# Altium integrated library Interface - RS485.IntLib: 24 symbols
Pins are listed as number, name and electrical type; pins without a type are passive.

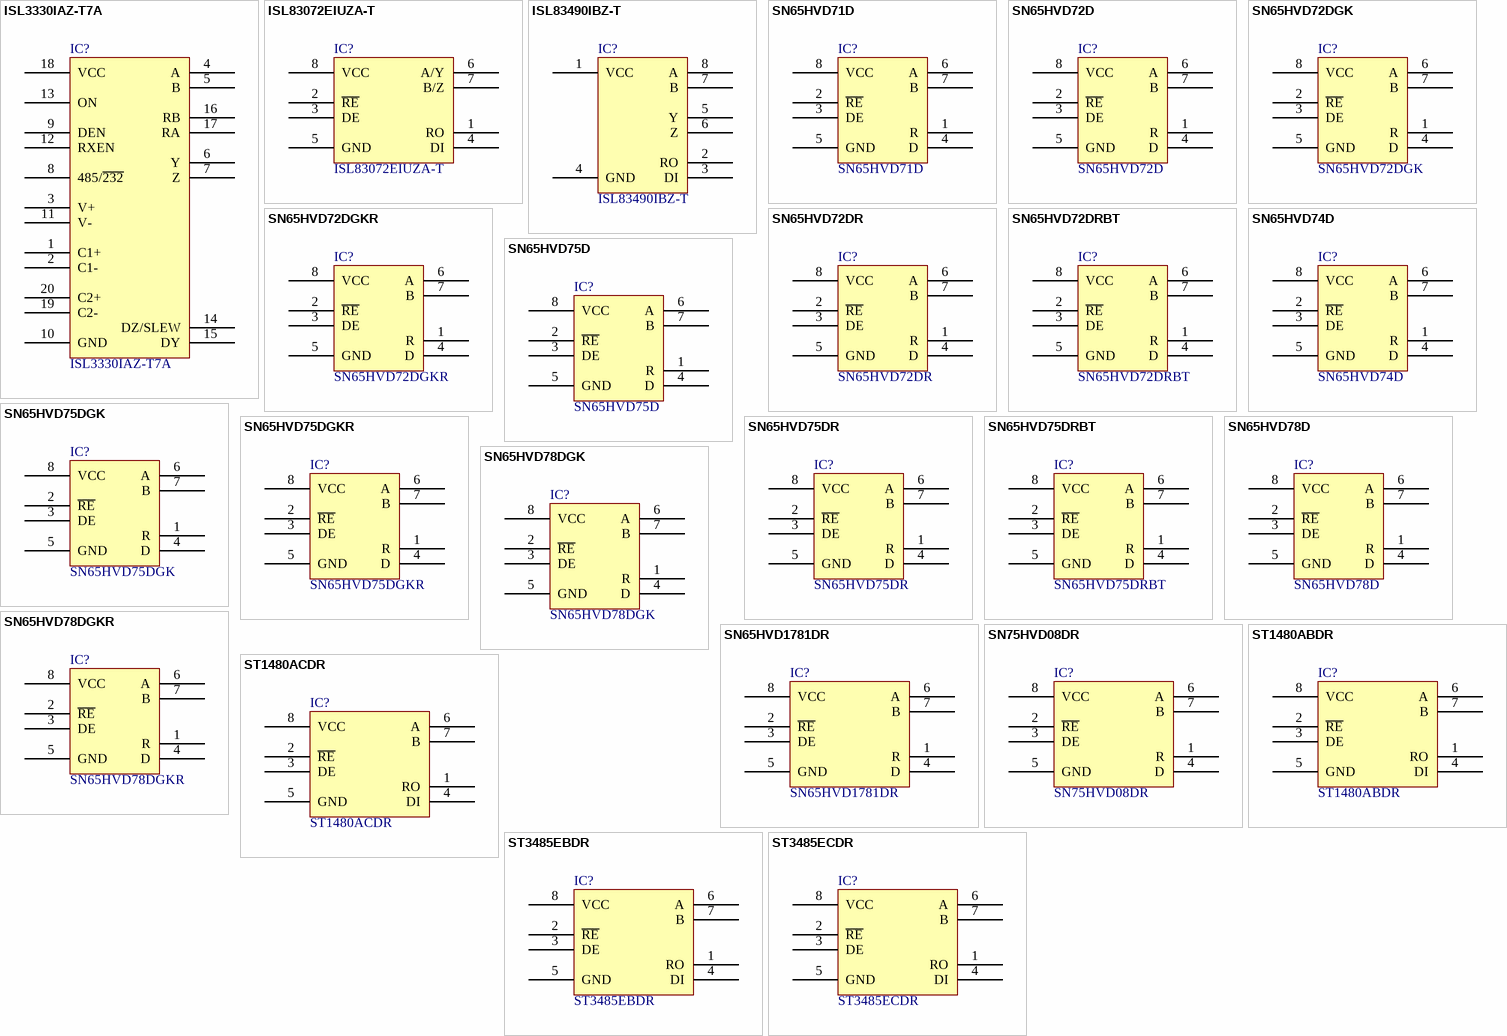
[diagram p0: symbols ISL3330IAZ-T7A to ST3485ECDR]

## ISL3330IAZ-T7A
designator IC?
IC TXRX RS232/485 DUAL 20SSOP; Manufacturer: Intersil; Protocol: RS232, RS422, RS485; Number of Drivers/Receivers: 2/2; Duplex: Full; Receiver Hysteresis: 35mV; Data Rate: 20Mbps; Voltage - Supply: 3.15 V ~ 3.45 V; Part Number: ISL3330IAZ-T7A; PartId: 16400; Supplier 1: Digi-Key; Supplier Part Number 1: ISL3330IAZ-T7ATR-ND; ComponentLink1Description: Datasheet; ComponentLink1URL: http://www.intersil.com/content/dam/Intersil/documents/isl3/isl3330-31.pdf; ComponentLink2Description: Digi-Key Listing; ComponentLink2URL: http://www.digikey.com/product-detail/en/intersil/ISL3330IAZ-T7A/ISL3330IAZ-T7ATR-ND/2513557; Price: 4.93; Type: Transceiver; Device Package: 20-SSOP (0.209", 5.30mm Width); Operating Temperature: -40C ~ 85C
footprint INTERSIL SSOP-20
pins: 1 C1+, 2 C1-, 3 V+, 4 A, 5 B, 6 Y, 7 Z, 8 485/~{232}, 9 DEN, 10 GND, 11 V-, 12 RXEN, 13 ON, 14 DZ/SLEW, 15 DY, 16 RB, 17 RA, 18 VCC, 19 C2-, 20 C2+

## ISL83072EIUZA-T
designator IC?
IC TXRX RS422/485 250KBPS 8MSOP; Manufacturer: Intersil; Protocol: RS422, RS485; Number of Drivers/Receivers: 1/1; Duplex: Half; Receiver Hysteresis: 15mV; Voltage - Supply: 3 V ~ 3.6 V; Part Number: ISL83072EIUZA-T; PartId: 16407; Supplier 1: Digi-Key; Supplier Part Number 1: ISL83072EIUZA-TTR-ND; ComponentLink1Description: Datasheet; ComponentLink1URL: http://www.intersil.com/content/dam/Intersil/documents/isl8/isl83070e-71e-72e-73e-75e-78e.pdf; ComponentLink2Description: Digi-Key Listing; ComponentLink2URL: http://www.digikey.com/product-detail/en/intersil/ISL83072EIUZA-T/ISL83072EIUZA-TTR-ND/1034465; Price: 0.7965; Type: Transceiver; Device Package: 8-TSSOP, 8-MSOP (0.118", 3.00mm Width); Operating Temperature: -40C ~ 85C; Data Rate: 250kbps
footprint INTERSIL SOIC-8 M8.15
pins: 1 RO, 2 ~{RE}, 3 DE, 4 DI, 5 GND, 6 A/Y, 7 B/Z, 8 VCC

## ISL83490IBZ-T
designator IC?
IC TXRX RS485/422 3.3V LP 8-S; Manufacturer: Intersil; Protocol: RS422, RS485; Number of Drivers/Receivers: 1/1; Duplex: Full; Receiver Hysteresis: 50mV; Data Rate: 10Mbps; Voltage - Supply: 3 V ~ 3.6 V; Part Number: ISL83490IBZ-T; PartId: 9754; Supplier 1: Digi-Key; Supplier Part Number 1: ISL83490IBZ-TTR-ND; ComponentLink1Description: Datasheet; ComponentLink1URL: http://www.intersil.com/content/dam/Intersil/documents/isl8/isl83483-85-88-90-91.pdf; ComponentLink2Description: Digi-Key Listing; ComponentLink2URL: http://www.digikey.com/product-detail/en/intersil/ISL83490IBZ-T/ISL83490IBZ-TTR-ND/1065061; Price: 0.574; Type: Transceiver; Device Package: 8-SOIC (0.154", 3.90mm Width); Operating Temperature: -40C ~ 85C
footprint INTERSIL SOIC-8 M8.15
pins: 1 VCC, 2 RO, 3 DI, 4 GND, 5 Y, 6 Z, 7 B, 8 A

## SN65HVD71D
designator IC?
IC RS485 TXRX 3.3 ESD 8SOIC; Manufacturer: Texas Instruments; Protocol: RS422, RS485; Number of Drivers/Receivers: 1/1; Duplex: Full; Receiver Hysteresis: 70mV; Data Rate: 400kbps; Voltage - Supply: 3 V ~ 3.6 V; Part Number: SN65HVD71D; PartId: 9744; Supplier 1: Digi-Key; Supplier Part Number 1: 296-38501-5-ND; ComponentLink1Description: Datasheet; ComponentLink1URL: http://www.ti.com/lit/ds/symlink/sn65hvd71.pdf; ComponentLink2Description: Digi-Key Listing; ComponentLink2URL: http://www.digikey.com/product-detail/en/texas-instruments/SN65HVD71D/296-38501-5-ND/5023869; Price: 4.2; Type: Transceiver; Device Package: 8-SOIC (0.154", 3.90mm Width); Operating Temperature: -40C ~ 125C
footprint TI SOIC-8 D
pins: 1 R, 2 ~{RE}, 3 DE, 4 D, 5 GND, 6 A, 7 B, 8 VCC

## SN65HVD72D
designator IC?
IC TXRX RS485 3.3V 8SOIC; Manufacturer: Texas Instruments; Protocol: RS422, RS485; Number of Drivers/Receivers: 1/1; Duplex: Half; Receiver Hysteresis: 80mV; Data Rate: 250kbps; Voltage - Supply: 3 V ~ 3.6 V; Part Number: SN65HVD72D; PartId: 9741; Supplier 1: Digi-Key; Supplier Part Number 1: 296-30400-5-ND; ComponentLink1Description: Datasheet; ComponentLink1URL: http://www.ti.com/lit/ds/symlink/sn65hvd72.pdf; ComponentLink2Description: Digi-Key Listing; ComponentLink2URL: http://www.digikey.com/product-detail/en/texas-instruments/SN65HVD72D/296-30400-5-ND/3283549; Price: 2.04; Type: Transceiver; Device Package: 8-SOIC (0.154", 3.90mm Width); Operating Temperature: -40C ~ 125C
footprint TI SOIC-8 D
pins: 1 R, 2 ~{RE}, 3 DE, 4 D, 5 GND, 6 A, 7 B, 8 VCC

## SN65HVD72DGK
designator IC?
IC TXRX RS485 3.3V 8VSSOP; Manufacturer: Texas Instruments; Protocol: RS422, RS485; Number of Drivers/Receivers: 1/1; Duplex: Half; Receiver Hysteresis: 80mV; Data Rate: 250kbps; Voltage - Supply: 3 V ~ 3.6 V; Part Number: SN65HVD72DGK; PartId: 9751; Supplier 1: Digi-Key; Supplier Part Number 1: 296-43493-5-ND; ComponentLink1Description: Datasheet; ComponentLink1URL: http://www.ti.com/lit/ds/symlink/sn65hvd72.pdf; ComponentLink2Description: Digi-Key Listing; ComponentLink2URL: http://www.digikey.com/product-detail/en/texas-instruments/SN65HVD72DGK/296-43493-5-ND/3902446; Price: 2.51; Type: Transceiver; Device Package: 8-TSSOP, 8-MSOP (0.118", 3.00mm Width); Operating Temperature: -40C ~ 125C
footprint TI VSSOP-8 DGK
pins: 1 R, 2 ~{RE}, 3 DE, 4 D, 5 GND, 6 A, 7 B, 8 VCC

## SN65HVD72DGKR
designator IC?
IC TXRX RS485 3.3V 8VSSOP; Manufacturer: Texas Instruments; Protocol: RS422, RS485; Number of Drivers/Receivers: 1/1; Duplex: Half; Receiver Hysteresis: 80mV; Data Rate: 250kbps; Voltage - Supply: 3 V ~ 3.6 V; Part Number: SN65HVD72DGKR; PartId: 9746; Supplier 1: Digi-Key; Supplier Part Number 1: 296-35069-2-ND; ComponentLink1Description: Datasheet; ComponentLink1URL: http://www.ti.com/lit/ds/symlink/sn65hvd72.pdf; ComponentLink2Description: Digi-Key Listing; ComponentLink2URL: http://www.digikey.com/product-detail/en/texas-instruments/SN65HVD72DGKR/296-35069-2-ND/3726864; Price: 0.985; Type: Transceiver; Device Package: 8-TSSOP, 8-MSOP (0.118", 3.00mm Width); Operating Temperature: -40C ~ 125C
footprint TI VSSOP-8 DGK
pins: 1 R, 2 ~{RE}, 3 DE, 4 D, 5 GND, 6 A, 7 B, 8 VCC

## SN65HVD72DR
designator IC?
IC TXRX RS485 3.3V ESD 8SOIC; Manufacturer: Texas Instruments; Protocol: RS422, RS485; Number of Drivers/Receivers: 1/1; Duplex: Half; Receiver Hysteresis: 80mV; Data Rate: 250kbps; Voltage - Supply: 3 V ~ 3.6 V; Part Number: SN65HVD72DR; PartId: 9739; Supplier 1: Digi-Key; Supplier Part Number 1: 296-39179-2-ND; ComponentLink1Description: Datasheet; ComponentLink1URL: http://www.ti.com/lit/ds/symlink/sn65hvd72.pdf; ComponentLink2Description: Digi-Key Listing; ComponentLink2URL: http://www.digikey.com/product-detail/en/texas-instruments/SN65HVD72DR/296-39179-2-ND/3305523; Price: 0.7875; Type: Transceiver; Device Package: 8-SOIC (0.154", 3.90mm Width); Operating Temperature: -40C ~ 125C
footprint TI SOIC-8 D
pins: 1 R, 2 ~{RE}, 3 DE, 4 D, 5 GND, 6 A, 7 B, 8 VCC

## SN65HVD72DRBT
designator IC?
TXRX 3.3V RS-485 ESD 8SON; Manufacturer: Texas Instruments; Protocol: RS422, RS485; Number of Drivers/Receivers: 1/1; Duplex: Half; Receiver Hysteresis: 80mV; Data Rate: 250kbps; Voltage - Supply: 3 V ~ 3.6 V; Part Number: SN65HVD72DRBT; PartId: 9752; Supplier 1: Digi-Key; Supplier Part Number 1: 296-35711-2-ND; ComponentLink1Description: Datasheet; ComponentLink1URL: http://www.ti.com/lit/ds/symlink/sn65hvd72.pdf; ComponentLink2Description: Digi-Key Listing; ComponentLink2URL: http://www.digikey.com/product-detail/en/texas-instruments/SN65HVD72DRBT/296-35711-2-ND/3918608; Price: 1.8648; Type: Transceiver; Device Package: 8-VDFN Exposed Pad; Operating Temperature: -40C ~ 125C
footprint TI VSON-8 DRB
pins: 1 R, 2 ~{RE}, 3 DE, 4 D, 5 GND, 6 A, 7 B, 8 VCC

## SN65HVD74D
designator IC?
IC TXRX RS485 3.3V ESD 14SOIC; Manufacturer: Texas Instruments; Protocol: RS422, RS485; Number of Drivers/Receivers: 1/1; Duplex: Full; Receiver Hysteresis: 70mV; Data Rate: 20Mbps; Voltage - Supply: 3 V ~ 3.6 V; Part Number: SN65HVD74D; PartId: 9743; Supplier 1: Digi-Key; Supplier Part Number 1: 296-38503-5-ND; ComponentLink1Description: Datasheet; ComponentLink1URL: http://www.ti.com/lit/ds/symlink/sn65hvd71.pdf; ComponentLink2Description: Digi-Key Listing; ComponentLink2URL: http://www.digikey.com/product-detail/en/texas-instruments/SN65HVD74D/296-38503-5-ND/5023871; Price: 4.6; Type: Transceiver; Device Package: 8-SOIC (0.154", 3.90mm Width); Operating Temperature: -40C ~ 125C
footprint TI SOIC-8 D
pins: 1 R, 2 ~{RE}, 3 DE, 4 D, 5 GND, 6 A, 7 B, 8 VCC

## SN65HVD75D
designator IC?
IC TXRX RS485 3.3V LP 8SOIC; Manufacturer: Texas Instruments; Protocol: RS422, RS485; Number of Drivers/Receivers: 1/1; Duplex: Half; Receiver Hysteresis: 80mV; Data Rate: 20Mbps; Voltage - Supply: 3 V ~ 3.6 V; Part Number: SN65HVD75D; PartId: 9742; Supplier 1: Digi-Key; Supplier Part Number 1: 296-30401-5-ND; ComponentLink1Description: Datasheet; ComponentLink1URL: http://www.ti.com/lit/ds/symlink/sn65hvd75.pdf; ComponentLink2Description: Digi-Key Listing; ComponentLink2URL: http://www.digikey.com/product-detail/en/texas-instruments/SN65HVD75D/296-30401-5-ND/3283550; Price: 2.48; Type: Transceiver; Device Package: 8-SOIC (0.154", 3.90mm Width); Operating Temperature: -40C ~ 125C
footprint TI SOIC-8 D
pins: 1 R, 2 ~{RE}, 3 DE, 4 D, 5 GND, 6 A, 7 B, 8 VCC

## SN65HVD75DGK
designator IC?
IC TXRX RS485 3.3V LP 8VSSOP; Manufacturer: Texas Instruments; Protocol: RS422, RS485; Number of Drivers/Receivers: 1/1; Duplex: Half; Receiver Hysteresis: 80mV; Data Rate: 20Mbps; Voltage - Supply: 3 V ~ 3.6 V; Part Number: SN65HVD75DGK; PartId: 9749; Supplier 1: Digi-Key; Supplier Part Number 1: 296-39180-5-ND; ComponentLink1Description: Datasheet; ComponentLink1URL: http://www.ti.com/lit/ds/symlink/sn65hvd75.pdf; ComponentLink2Description: Digi-Key Listing; ComponentLink2URL: http://www.digikey.com/product-detail/en/texas-instruments/SN65HVD75DGK/296-39180-5-ND/3902447; Price: 2.74; Type: Transceiver; Device Package: 8-TSSOP, 8-MSOP (0.118", 3.00mm Width); Operating Temperature: -40C ~ 125C
footprint TI VSSOP-8 DGK
pins: 1 R, 2 ~{RE}, 3 DE, 4 D, 5 GND, 6 A, 7 B, 8 VCC

## SN65HVD75DGKR
designator IC?
IC TXRX RS485 3.3V LP 8VSSOP; Manufacturer: Texas Instruments; Protocol: RS422, RS485; Number of Drivers/Receivers: 1/1; Duplex: Half; Receiver Hysteresis: 80mV; Data Rate: 20Mbps; Voltage - Supply: 3 V ~ 3.6 V; Part Number: SN65HVD75DGKR; PartId: 9747; Supplier 1: Digi-Key; Supplier Part Number 1: 296-35070-2-ND; ComponentLink1Description: Datasheet; ComponentLink1URL: http://www.ti.com/lit/ds/symlink/sn65hvd75.pdf; ComponentLink2Description: Digi-Key Listing; ComponentLink2URL: http://www.digikey.com/product-detail/en/texas-instruments/SN65HVD75DGKR/296-35070-2-ND/3726865; Price: 1.1925; Type: Transceiver; Device Package: 8-TSSOP, 8-MSOP (0.118", 3.00mm Width); Operating Temperature: -40C ~ 125C
footprint TI VSSOP-8 DGK
pins: 1 R, 2 ~{RE}, 3 DE, 4 D, 5 GND, 6 A, 7 B, 8 VCC

## SN65HVD75DR
designator IC?
IC TXRX RS485 3.3V LP 8SOIC; Manufacturer: Texas Instruments; Protocol: RS422, RS485; Number of Drivers/Receivers: 1/1; Duplex: Half; Receiver Hysteresis: 80mV; Data Rate: 20Mbps; Voltage - Supply: 3 V ~ 3.6 V; Part Number: SN65HVD75DR; PartId: 9740; Supplier 1: Digi-Key; Supplier Part Number 1: 296-38570-2-ND; ComponentLink1Description: Datasheet; ComponentLink1URL: http://www.ti.com/lit/ds/symlink/sn65hvd75.pdf; ComponentLink2Description: Digi-Key Listing; ComponentLink2URL: http://www.digikey.com/product-detail/en/texas-instruments/SN65HVD75DR/296-38570-2-ND/3131343; Price: 0.9562; Type: Transceiver; Device Package: 8-SOIC (0.154", 3.90mm Width); Operating Temperature: -40C ~ 125C
footprint TI SOIC-8 D
pins: 1 R, 2 ~{RE}, 3 DE, 4 D, 5 GND, 6 A, 7 B, 8 VCC

## SN65HVD75DRBT
designator IC?
TXRX 3.3V RS-485 ESD 8SON; Manufacturer: Texas Instruments; Protocol: RS422, RS485; Number of Drivers/Receivers: 1/1; Duplex: Half; Receiver Hysteresis: 80mV; Data Rate: 20Mbps; Voltage - Supply: 3 V ~ 3.6 V; Part Number: SN65HVD75DRBT; PartId: 9753; Supplier 1: Digi-Key; Supplier Part Number 1: 296-35710-2-ND; ComponentLink1Description: Datasheet; ComponentLink1URL: http://www.ti.com/lit/ds/symlink/sn65hvd75.pdf; ComponentLink2Description: Digi-Key Listing; ComponentLink2URL: http://www.digikey.com/product-detail/en/texas-instruments/SN65HVD75DRBT/296-35710-2-ND/3918609; Price: 2.2977; Type: Transceiver; Device Package: 8-VDFN Exposed Pad; Operating Temperature: -40C ~ 125C
footprint TI VSON-8 DRB
pins: 1 R, 2 ~{RE}, 3 DE, 4 D, 5 GND, 6 A, 7 B, 8 VCC

## SN65HVD78D
designator IC?
IC TXRX RS485 3.3V ESD 8SOIC; Manufacturer: Texas Instruments; Protocol: RS422, RS485; Number of Drivers/Receivers: 1/1; Duplex: Half; Receiver Hysteresis: 80mV; Data Rate: 50Mbps; Voltage - Supply: 3 V ~ 3.6 V; Part Number: SN65HVD78D; PartId: 9745; Supplier 1: Digi-Key; Supplier Part Number 1: 296-30500-5-ND; ComponentLink1Description: Datasheet; ComponentLink1URL: http://www.ti.com/lit/ds/symlink/sn65hvd78.pdf; ComponentLink2Description: Digi-Key Listing; ComponentLink2URL: http://www.digikey.com/product-detail/en/texas-instruments/SN65HVD78D/296-30500-5-ND/3451625; Price: 2.92; Type: Transceiver; Device Package: 8-SOIC (0.154", 3.90mm Width); Operating Temperature: -40C ~ 125C
footprint TI SOIC-8 D
pins: 1 R, 2 ~{RE}, 3 DE, 4 D, 5 GND, 6 A, 7 B, 8 VCC

## SN65HVD78DGK
designator IC?
IC TXRX RS485 3.3V ESD 8VSSOP; Manufacturer: Texas Instruments; Protocol: RS422, RS485; Number of Drivers/Receivers: 1/1; Duplex: Half; Receiver Hysteresis: 80mV; Data Rate: 50Mbps; Voltage - Supply: 3 V ~ 3.6 V; Part Number: SN65HVD78DGK; PartId: 9750; Supplier 1: Digi-Key; Supplier Part Number 1: 296-41611-5-ND; ComponentLink1Description: Datasheet; ComponentLink1URL: http://www.ti.com/lit/ds/symlink/sn65hvd78.pdf; ComponentLink2Description: Digi-Key Listing; ComponentLink2URL: http://www.digikey.com/product-detail/en/texas-instruments/SN65HVD78DGK/296-41611-5-ND/3902448; Price: 3.22; Type: Transceiver; Device Package: 8-TSSOP, 8-MSOP (0.118", 3.00mm Width); Operating Temperature: -40C ~ 125C
footprint TI VSSOP-8 DGK
pins: 1 R, 2 ~{RE}, 3 DE, 4 D, 5 GND, 6 A, 7 B, 8 VCC

## SN65HVD78DGKR
designator IC?
IC TXRX RS485 3.3V ESD 8VSSOP; Manufacturer: Texas Instruments; Protocol: RS422, RS485; Number of Drivers/Receivers: 1/1; Duplex: Half; Receiver Hysteresis: 80mV; Data Rate: 50Mbps; Voltage - Supply: 3 V ~ 3.6 V; Part Number: SN65HVD78DGKR; PartId: 9748; Supplier 1: Digi-Key; Supplier Part Number 1: 296-35071-2-ND; ComponentLink1Description: Datasheet; ComponentLink1URL: http://www.ti.com/lit/ds/symlink/sn65hvd78.pdf; ComponentLink2Description: Digi-Key Listing; ComponentLink2URL: http://www.digikey.com/product-detail/en/texas-instruments/SN65HVD78DGKR/296-35071-2-ND/3726866; Price: 1.4062; Type: Transceiver; Device Package: 8-TSSOP, 8-MSOP (0.118", 3.00mm Width); Operating Temperature: -40C ~ 125C
footprint TI VSSOP-8 DGK
pins: 1 R, 2 ~{RE}, 3 DE, 4 D, 5 GND, 6 A, 7 B, 8 VCC

## SN65HVD1781DR
designator IC?
IC TXRX RS485 FAULT-PROT 8-SOIC; Manufacturer: Texas Instruments; Protocol: RS422, RS485; Number of Drivers/Receivers: 1/1; Duplex: Half; Receiver Hysteresis: 50mV; Data Rate: 1Mbps; Voltage - Supply: 3.15 V ~ 5.5 V; Part Number: SN65HVD1781DR; PartId: 16401; Supplier 1: Digi-Key; Supplier Part Number 1: 296-23118-2-ND; ComponentLink1Description: Datasheet; ComponentLink1URL: http://www.ti.com/lit/ds/symlink/sn65hvd1781.pdf; ComponentLink2Description: Digi-Key Listing; ComponentLink2URL: http://www.digikey.com/product-detail/en/texas-instruments/SN65HVD1781DR/296-23118-2-ND/1805638; Price: 2.0812; Type: Transceiver; Device Package: 8-SOIC (0.154", 3.90mm Width); Operating Temperature: -40C ~ 125C
footprint TI SOIC-8 D
pins: 1 R, 2 ~{RE}, 3 DE, 4 D, 5 GND, 6 A, 7 B, 8 VCC

## SN75HVD08DR
designator IC?
IC RS485 TXRX 3/5V 8-SOIC; Manufacturer: Texas Instruments; Protocol: RS422, RS485; Number of Drivers/Receivers: 1/1; Duplex: Half; Receiver Hysteresis: 35mV; Data Rate: 10Mbps; Voltage - Supply: 3 V ~ 5.5 V; Part Number: SN75HVD08DR; PartId: 16402; Supplier 1: Digi-Key; Supplier Part Number 1: 296-37893-2-ND; ComponentLink1Description: Datasheet; ComponentLink1URL: http://www.ti.com/lit/ds/symlink/sn75hvd08.pdf; ComponentLink2Description: Digi-Key Listing; ComponentLink2URL: http://www.digikey.com/product-detail/en/texas-instruments/SN75HVD08DR/296-37893-2-ND/1593659; Price: 1.7725; Type: Transceiver; Device Package: 8-SOIC (0.154", 3.90mm Width); Operating Temperature: 0C ~ 70C
footprint TI SOIC-8 D
pins: 1 R, 2 ~{RE}, 3 DE, 4 D, 5 GND, 6 A, 7 B, 8 VCC

## ST1480ABDR
designator IC?
IC TXRX 3.3V RS485/422 8 SOIC; Manufacturer: STMicroelectronics; Protocol: RS422, RS485; Number of Drivers/Receivers: 1/1; Duplex: Half; Receiver Hysteresis: 30uV; Data Rate: 15Mbps; Voltage - Supply: 3 V ~ 3.6 V; Part Number: ST1480ABDR; PartId: 16403; Supplier 1: Digi-Key; Supplier Part Number 1: 497-2046-2-ND; ComponentLink1Description: Datasheet; ComponentLink1URL: http://www.st.com/web/en/resource/technical/document/datasheet/CD00003136.pdf; ComponentLink2Description: Digi-Key Listing; ComponentLink2URL: http://www.digikey.com/product-detail/en/stmicroelectronics/ST1480ABDR/497-2046-2-ND/599338; Price: 0.63; Type: Transceiver; Device Package: 8-SOIC (0.154", 3.90mm Width); Operating Temperature: -40C ~ 85C
footprint ST SOIC-8N
pins: 1 RO, 2 ~{RE}, 3 DE, 4 DI, 5 GND, 6 A, 7 B, 8 VCC

## ST1480ACDR
designator IC?
IC TXRX 3.3V RS485/422 ESD 8SOIC; Manufacturer: STMicroelectronics; Protocol: RS422, RS485; Number of Drivers/Receivers: 1/1; Duplex: Half; Receiver Hysteresis: 30uV; Data Rate: 15Mbps; Voltage - Supply: 3 V ~ 3.6 V; Part Number: ST1480ACDR; PartId: 16404; Supplier 1: Digi-Key; Supplier Part Number 1: 497-3726-2-ND; ComponentLink1Description: Datasheet; ComponentLink1URL: http://www.st.com/web/en/resource/technical/document/datasheet/CD00003136.pdf; ComponentLink2Description: Digi-Key Listing; ComponentLink2URL: https://www.digikey.com/product-detail/en/stmicroelectronics/ST1480ACDR/497-3726-2-ND/686405; Price: 0.6594; Type: Transceiver; Device Package: 8-SOIC (0.154", 3.90mm Width); Operating Temperature: 0C ~ 70C
footprint ST SOIC-8N
pins: 1 RO, 2 ~{RE}, 3 DE, 4 DI, 5 GND, 6 A, 7 B, 8 VCC

## ST3485EBDR
designator IC?
IC TXRX 3.3V RS485/422 8 SOIC; Manufacturer: STMicroelectronics; Protocol: RS422, RS485; Number of Drivers/Receivers: 1/1; Duplex: Half; Receiver Hysteresis: 70mV; Data Rate: 15Mbps; Voltage - Supply: 3 V ~ 3.6 V; Part Number: ST3485EBDR; PartId: 16406; Supplier 1: Digi-Key; Supplier Part Number 1: 497-2080-2-ND; ComponentLink1Description: Datasheet; ComponentLink1URL: http://www.st.com/content/ccc/resource/technical/document/datasheet/be/f4/e5/fd/b0/df/40/72/CD00003137.pdf/files/CD00003137.pdf/jcr:content/translations/en.CD00003137.pdf; ComponentLink2Description: Digi-Key Listing; ComponentLink2URL: https://www.digikey.com/product-detail/en/stmicroelectronics/ST3485EBDR/497-2080-2-ND/599328; Price: 0.6412; Type: Transceiver; Device Package: 8-SOIC (0.154", 3.90mm Width); Operating Temperature: -40C ~ 85C
footprint ST SOIC-8N
pins: 1 RO, 2 ~{RE}, 3 DE, 4 DI, 5 GND, 6 A, 7 B, 8 VCC

## ST3485ECDR
designator IC?
IC TXRX RS422/485 15MBPS 8SO; Manufacturer: STMicroelectronics; Protocol: RS422, RS485; Number of Drivers/Receivers: 1/1; Duplex: Half; Receiver Hysteresis: 70mV; Voltage - Supply: 3 V ~ 3.6 V; Part Number: ST3485ECDR; PartId: 16405; Supplier 1: Digi-Key; Supplier Part Number 1: 497-6540-2-ND; ComponentLink1Description: Datasheet; ComponentLink1URL: http://www.st.com/content/ccc/resource/technical/document/datasheet/be/f4/e5/fd/b0/df/40/72/CD00003137.pdf/files/CD00003137.pdf/jcr:content/translations/en.CD00003137.pdf; ComponentLink2Description: Digi-Key Listing; ComponentLink2URL: https://www.digikey.com/product-detail/en/stmicroelectronics/ST3485ECDR/497-6540-2-ND/1039255; Price: 0.6076; Type: Transceiver; Device Package: 8-SOIC (0.154", 3.90mm Width); Operating Temperature: 0C ~ 70C; Data Rate: 15Mbps
footprint ST SOIC-8N
pins: 1 RO, 2 ~{RE}, 3 DE, 4 DI, 5 GND, 6 A, 7 B, 8 VCC